# Altium footprint library ZERORULERV2.PcbLib: 78 footprints (part 2 of 5)
Each footprint in its own frame and in the unit in brackets; x right, y up, seen from the top. Pads: shape width x height; smd on the part's side, far side on the other; paste and mask are expansions set on the pad; w line width, h text height; cw(c..) or ccw(c..) is an arc to the next point about the centre after c.
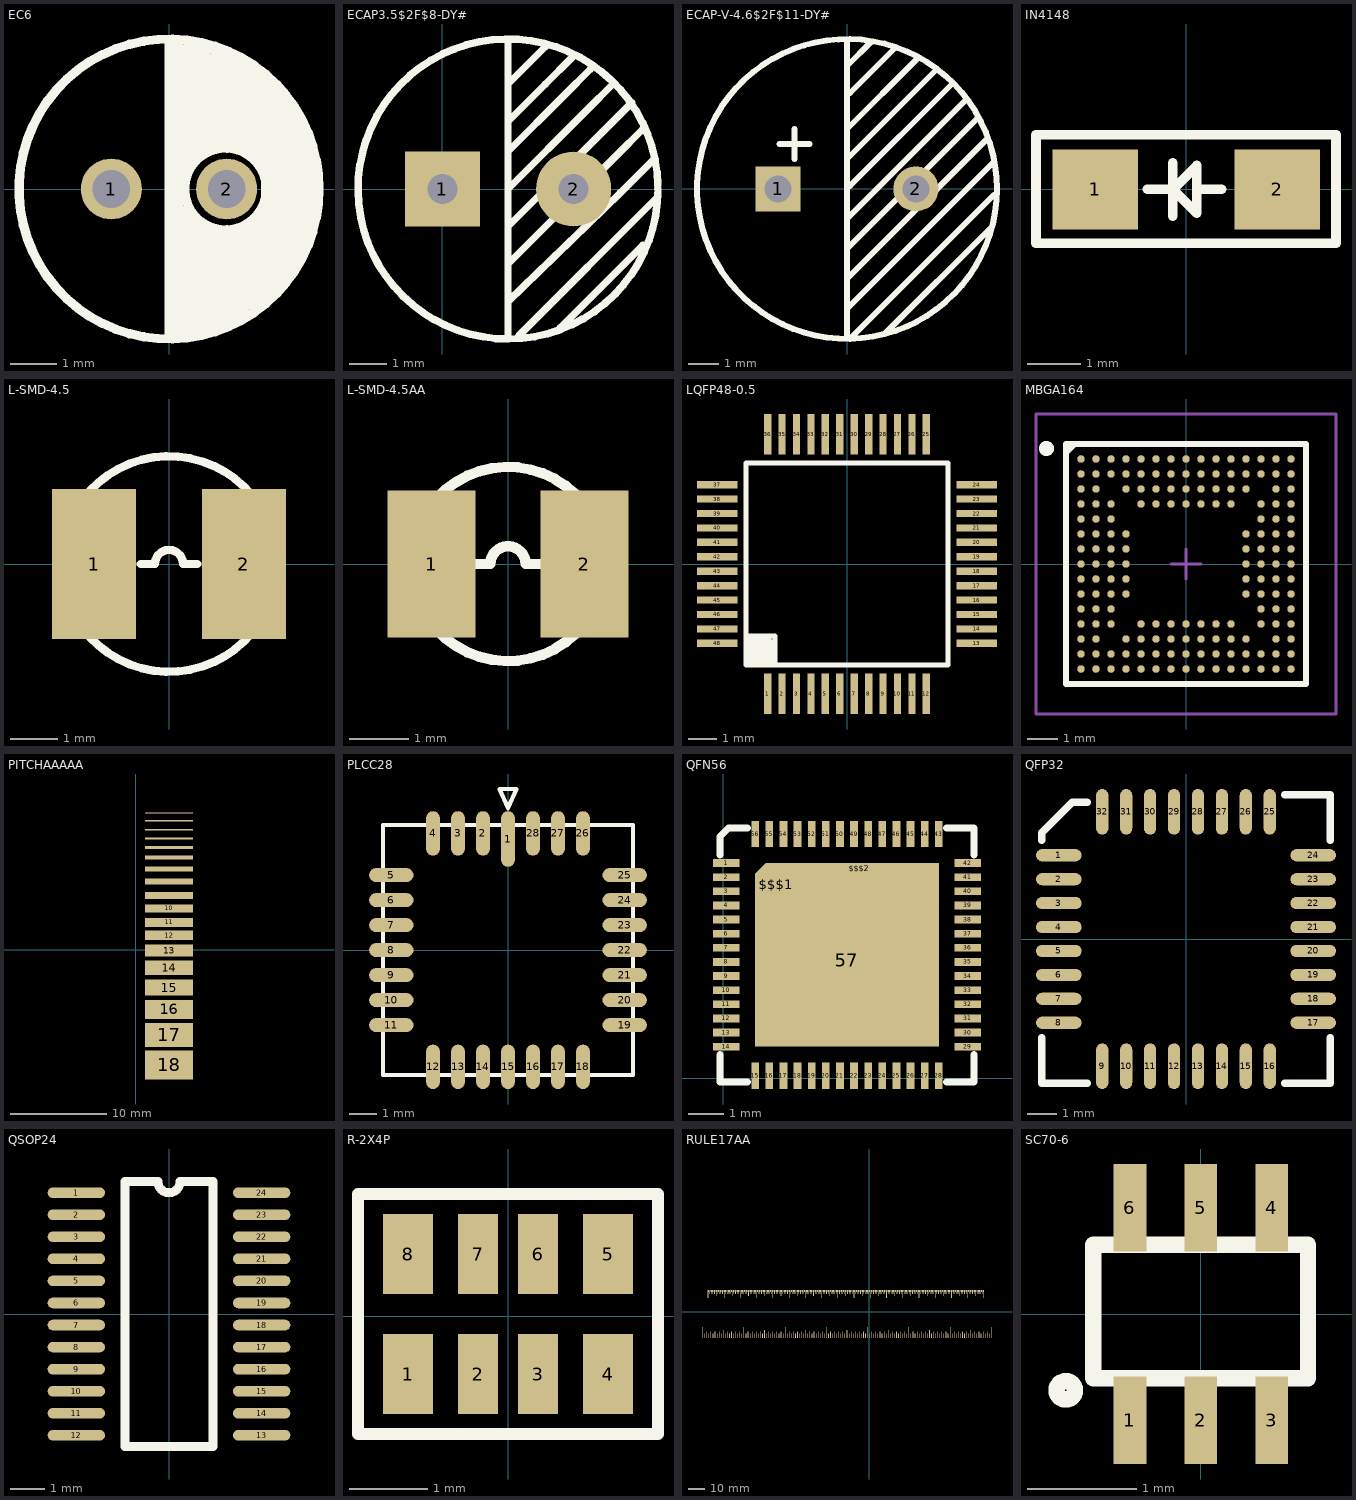
[diagram p1: the footprints below, top view; thin cyan lines are the x and y axes]

## EC6 [mil]
pads (2):
  round 52 hole 32: 1(-49.21,0) 2(49.21,0)
Top Overlay:
  circle w7.87: c0,0 r127.95
  circle w8: c48.23,0 r34.95
  lines w7.87: 0,-125.98 0,-118.11 0,118.11 0,125.98
  lines w8: 7.87,-125.98 7.87,125.98 ; 7.87,-118.11 35.43,-118.11 ; 7.87,-114.17 55.12,-114.17 ; 7.87,-98.43 70.87,-98.43 ; 7.87,-90.55 78.74,-90.55 ; 7.87,-74.8 98.43,-74.8 ; 7.87,-66.93 102.36,-66.93 ; 7.87,-59.06 110.24,-59.06 ; 7.87,-51.18 110.24,-51.18 ; 7.87,-43.31 114.17,-43.31 ; 7.87,-35.43 118.11,-35.43 ; 7.87,-15.75 27.56,-35.43 ; 11.81,-122.05 19.69,-122.05 ; 11.81,-106.3 66.93,-106.3 ; 11.81,-82.68 90.55,-82.68 ; 11.81,-27.56 17.72,-33.46 ; 11.81,11.81 11.81,19.69 27.56,35.43 78.74,35.43 78.74,23.62 ; 15.75,15.75 15.75,122.05 ; 23.62,27.56 23.62,122.05 ; 23.62,39.37 78.74,39.37 ; 28,124 60,108 92,80 116,40 124,0 116,-40 104,-68 72,-100 ; 31.5,43.31 31.5,118.11 ; 39.37,43.31 39.37,114.17 ; 47.24,43.31 47.24,114.17 ; 55.12,43.31 55.12,110.24 ; 62.99,43.31 62.99,106.3 ; 66.93,31.5 78.74,31.5 ; 70.87,39.37 70.87,98.43 ; 74.8,-31.5 80.71,-25.59 ; 78.74,43.31 78.74,90.55 ; 82.68,-35.43 82.68,86.61 ; 90.55,-35.43 90.55,78.74 ; 98.43,-35.43 98.43,74.8 ; 106.3,-31.5 106.3,59.06 ; 112,-56 112,56 ; 120,-40 120,40

## ECAP3.5$2F$8-DY# [mm]
height 0.318
pads (2):
  rect 2x2 hole 0.8: 1(0,0)
  round 2 hole 0.8: 2(3.5,0)
Top Overlay:
  lines w0.2: 1.75,-4 1.75,-3 ; 1.75,-2 4.65,0.9 5.35,1.6 ; 1.75,-1 4.25,1.5 5.05,2.3 ; 1.75,0 3.85,2.1 4.55,2.8 ; 1.75,1 3.25,2.5 3.95,3.2 ; 1.75,1.8 2.75,2.8 3.45,3.5 ; 1.75,2.8 2.75,3.8 ; 1.75,4 1.75,3 1.75,-3 ; 2.05,-3.9 5.75,-0.2 ; 3.15,-3.7 5.35,-1.5 ; 5.65,0.8 4.75,-0.1 1.75,-3 ; 5.749,0.105 ccw(c1.75,0) 5.75,0

## ECAP-V-4.6$2F$11-DY# [mm]
height 0.318
pads (2):
  rect 1.5x1.5 hole 0.9: 1(-2.3,0)
  round 1.5 hole 0.9: 2(2.3,0)
Top Overlay:
  circle w0.2: c0,0 r5
  lines w0.2: -2.25,1.5 -1.25,1.5 ; -1.75,1 -1.75,2 ; 0,-4.9 0,4.949 ; 0,-4 4.869,0.869 ; 0,-3 4.678,1.678 ; 0,-2 4.366,2.366 ; 0,-1 3.952,2.953 ; 0,1 2.95,3.951 ; 0,2 2.331,4.331 ; 0,4.1 0.805,4.905 ; 0.095,-5.005 4.904,-0.196 ; 0.1,0.1 3.484,3.484 ; 0.1,3.2 1.585,4.684 ; 1.281,-4.819 4.781,-1.318

## IN4148 [mm]
pads (2):
  rect 1.6x1.5 smd: 1(-1.7,0) 2(1.7,0)
Top Overlay:
  lines w0.178: -0.728,0 -0.25,0 ; -0.25,-0.5 -0.25,0.5 ; 0.2,0 0.668,0 ; -0.25,0 0.2,0.45 0.2,-0.45 -0.25,0 ; -2.809,-1.003 2.802,-1.003 2.802,1.018 -2.809,1.018 -2.809,-1.003

## L-SMD-4.5 [mm]
pads (2):
  rect 1.8x3.2 smd: 1(-1.6,0) 2(1.6,0)
Top Overlay:
  circle w0.178: c0,0 r2.3
  lines w0.178: -0.6,0 -0.3,0 cw(c0,0) 0.3,0 0.6,0

## L-SMD-4.5AA [mm]
pads (2):
  rect 1.5x2.5 smd: 1(-1.3,0) 2(1.3,0)
Top Overlay:
  circle w0.178: c0,0 r1.65
  lines w0.178: -0.6,0 -0.3,0 cw(c0,0) 0.3,0 0.6,0

## LQFP48-0.5 [mm]
pads (48):
  rect 0.254x1.397 smd: 1(-2.75,-4.5) 2(-2.25,-4.5) 3(-1.75,-4.5) 4(-1.25,-4.5) 5(-0.75,-4.5) 6(-0.25,-4.5) 7(0.25,-4.5) 8(0.75,-4.5) 9(1.25,-4.5) 10(1.75,-4.5) 11(2.25,-4.5) 12(2.75,-4.5) 25(2.75,4.5) 26(2.25,4.5) 27(1.75,4.5) 28(1.25,4.5) 29(0.75,4.5) 30(0.25,4.5) 31(-0.25,4.5) 32(-0.75,4.5) 33(-1.25,4.5) 34(-1.75,4.5) 35(-2.25,4.5) 36(-2.75,4.5)
  rect 1.397x0.254 smd: 13(4.5,-2.75) 14(4.5,-2.25) 15(4.5,-1.75) 16(4.5,-1.25) 17(4.5,-0.75) 18(4.5,-0.25) 19(4.5,0.25) 20(4.5,0.75) 21(4.5,1.25) 22(4.5,1.75) 23(4.5,2.25) 24(4.5,2.75) 37(-4.5,2.75) 38(-4.5,2.25) 39(-4.5,1.75) 40(-4.5,1.25) 41(-4.5,0.75) 42(-4.5,0.25) 43(-4.5,-0.25) 44(-4.5,-0.75) 45(-4.5,-1.25) 46(-4.5,-1.75) 47(-4.5,-2.25) 48(-4.5,-2.75)
Top Overlay:
  lines w0.178: -3.4,-2.5 -3.4,-3.4 -2.5,-3.4 ; -3.3,-2.5 -3.3,-3.3 -2.5,-3.3 ; -3.2,-2.5 -3.2,-3.2 -2.5,-3.2 ; -3.1,-2.5 -3.1,-3.1 -2.5,-3.1 ; -3,-2.5 -3,-3 -2.5,-3 ; -2.9,-2.6 -2.9,-2.9 -2.5,-2.9 ; -2.8,-2.5 -2.8,-2.8 -2.5,-2.8 ; -2.7,-2.5 -2.7,-2.7 -2.5,-2.7 ; -3.5,-2.5 -2.5,-2.5 -2.5,-3.5 ; -3.5,-2.5 -3.5,3.5 3.5,3.5 3.5,-3.5 -2.5,-3.5 ; -3.5,-2.5 -3.5,-3.5 -2.5,-3.5

## MBGA164 [mm] "BGA, 164-Leads, Body 8x8mm, Pitch 0.5mm"
height 1.2
pads (164):
  round 0.25 smd: A1(-3.5,3.5) A2(-3,3.5) A3(-2.5,3.5) A4(-2,3.5) A5(-1.5,3.5) A6(-1,3.5) A7(-0.5,3.5) A8(0,3.5) A9(0.5,3.5) A10(1,3.5) A11(1.5,3.5) A12(2,3.5) A13(2.5,3.5) A14(3,3.5) A15(3.5,3.5) B1(-3.5,3) B2(-3,3) B3(-2.5,3) B4(-2,3) B5(-1.5,3) B6(-1,3) B7(-0.5,3) B8(0,3) B9(0.5,3) B10(1,3) B11(1.5,3) B12(2,3) B13(2.5,3) B14(3,3) B15(3.5,3) C1(-3.5,2.5) C2(-3,2.5) C4(-2,2.5) C5(-1.5,2.5) C6(-1,2.5) C7(-0.5,2.5) C8(0,2.5) C9(0.5,2.5) C10(1,2.5) C11(1.5,2.5) C12(2,2.5) C14(3,2.5) C15(3.5,2.5) D1(-3.5,2) D2(-3,2) D3(-2.5,2) D5(-1.5,2) D6(-1,2) D7(-0.5,2) D8(0,2) D9(0.5,2) D10(1,2) D11(1.5,2) D13(2.5,2) D14(3,2) D15(3.5,2) E1(-3.5,1.5) E2(-3,1.5) E3(-2.5,1.5) E13(2.5,1.5) E14(3,1.5) E15(3.5,1.5) F1(-3.5,1) F2(-3,1) F3(-2.5,1) F4(-2,1) F12(2,1) F13(2.5,1) F14(3,1) F15(3.5,1) G1(-3.5,0.5) G2(-3,0.5) G3(-2.5,0.5) G4(-2,0.5) G12(2,0.5) G13(2.5,0.5) G14(3,0.5) G15(3.5,0.5) H1(-3.5,0) H2(-3,0) H3(-2.5,0) H4(-2,0) H12(2,0) H13(2.5,0) H14(3,0) H15(3.5,0) J1(-3.5,-0.5) J2(-3,-0.5) J3(-2.5,-0.5) J4(-2,-0.5) J12(2,-0.5) J13(2.5,-0.5) J14(3,-0.5) J15(3.5,-0.5) K1(-3.5,-1) K2(-3,-1) K3(-2.5,-1) K4(-2,-1) K12(2,-1) K13(2.5,-1) K14(3,-1) K15(3.5,-1) L1(-3.5,-1.5) L2(-3,-1.5) L3(-2.5,-1.5) L13(2.5,-1.5) L14(3,-1.5) L15(3.5,-1.5) M1(-3.5,-2) M2(-3,-2) M3(-2.5,-2) M5(-1.5,-2) M6(-1,-2) M7(-0.5,-2) M8(0,-2) M9(0.5,-2) M10(1,-2) M11(1.5,-2) M13(2.5,-2) M14(3,-2) M15(3.5,-2) N1(-3.5,-2.5) N2(-3,-2.5) N4(-2,-2.5) N5(-1.5,-2.5) N6(-1,-2.5) N7(-0.5,-2.5) N8(0,-2.5) N9(0.5,-2.5) N10(1,-2.5) N11(1.5,-2.5) N12(2,-2.5) N14(3,-2.5) N15(3.5,-2.5) P1(-3.5,-3) P2(-3,-3) P3(-2.5,-3) P4(-2,-3) P5(-1.5,-3) P6(-1,-3) P7(-0.5,-3) P8(0,-3) P9(0.5,-3) P10(1,-3) P11(1.5,-3) P12(2,-3) P13(2.5,-3) P14(3,-3) P15(3.5,-3) R1(-3.5,-3.5) R2(-3,-3.5) R3(-2.5,-3.5) R4(-2,-3.5) R5(-1.5,-3.5) R6(-1,-3.5) R7(-0.5,-3.5) R8(0,-3.5) R9(0.5,-3.5) R10(1,-3.5) R11(1.5,-3.5) R12(2,-3.5) R13(2.5,-3.5) R14(3,-3.5) R15(3.5,-3.5)
Top Overlay:
  circle w0.25: c-4.65,3.85 r0.125
  region: -3.707,4 -4,3.707 -4,4
  lines w0.2: -4,3.707 -3.707,4 ; -4,-4 -4,4 4,4 4,-4 -4,-4
Mechanical 13:
  lines w0.1: -4,-4 -4,4 4,4 4,-4 -4,-4
Mechanical 15:
  lines w0.1: -0.5,0 0.5,0 ; 0,-0.5 0,0.5 ; -5,-5 -5,5 5,5 5,-5 -5,-5
3D body: height 1.2, standoff 0.15, extent -4,-4 4,4

## PITCHAAAAA [mm]
pads (18):
  rect 5x0.1 smd: 1(3.481,14.233)
  rect 5x0.127 smd: 2(3.481,13.428)
  rect 5x0.152 smd: 3(3.481,12.507)
  rect 5x0.2 smd: 4(3.481,11.589)
  rect 5x0.3 smd: 5(3.481,10.647)
  rect 5x0.4 smd: 6(3.481,9.592)
  rect 5x0.5 smd: 7(3.481,8.409)
  rect 5x0.6 smd: 8(3.481,7.105)
  rect 5x0.7 smd: 9(3.481,5.645)
  rect 5x0.8 smd: 10(3.481,4.311)
  rect 5x0.9 smd: 11(3.481,2.852)
  rect 5x1 smd: 12(3.481,1.509)
  rect 5x1.25 smd: 13(3.481,-0.081)
  rect 5x1.5 smd: 14(3.481,-1.874)
  rect 5x1.7 smd: 15(3.481,-3.915)
  rect 5x2 smd: 16(3.481,-6.191)
  rect 5x2.5 smd: 17(3.481,-8.84)
  rect 5x3 smd: 18(3.481,-11.971)

## PLCC28 [mm]
height 2.35
pads (28):
  oval 0.5x2 smd: 1(0,4)
  oval 0.5x1.6 smd: 2(-0.9,4.2) 3(-1.8,4.2) 4(-2.7,4.2) 12(-2.7,-4.2) 13(-1.8,-4.2) 14(-0.9,-4.2) 15(0,-4.2) 16(0.9,-4.2) 17(1.8,-4.2) 18(2.7,-4.2) 26(2.7,4.2) 27(1.8,4.2) 28(0.9,4.2)
  oval 1.6x0.5 smd: 5(-4.2,2.7) 6(-4.2,1.8) 7(-4.2,0.9) 8(-4.2,0) 9(-4.2,-0.9) 10(-4.2,-1.8) 11(-4.2,-2.7) 19(4.2,-2.7) 20(4.2,-1.8) 21(4.2,-0.9) 22(4.2,0) 23(4.2,0.9) 24(4.2,1.8) 25(4.2,2.7)
Top Overlay:
  lines w0.152: -4.5,-4.5 4.5,-4.5 4.5,4.5 -4.5,4.5 -4.5,-4.5 ; -0.3,5.8 0,5.11 0.3,5.8 -0.3,5.8

## QFN56 [mm]
pads (59):
  rect 0.75x0.22 smd: 1(0.075,6.1) 2(0.075,5.7) 3(0.075,5.3) 4(0.075,4.9) 5(0.075,4.5) 6(0.075,4.1) 7(0.075,3.7) 8(0.075,3.3) 9(0.075,2.9) 10(0.075,2.5) 11(0.075,2.1) 12(0.075,1.7) 13(0.075,1.3) 14(0.075,0.9) 29(6.925,0.9) 30(6.925,1.3) 31(6.925,1.7) 32(6.925,2.1) 33(6.925,2.5) 34(6.925,2.9) 35(6.925,3.3) 36(6.925,3.7) 37(6.925,4.1) 38(6.925,4.5) 39(6.925,4.9) 40(6.925,5.3) 41(6.925,5.7) 42(6.925,6.1)
  rect 0.22x0.75 smd: 15(0.9,0.075) 16(1.3,0.075) 17(1.7,0.075) 18(2.1,0.075) 19(2.5,0.075) 20(2.9,0.075) 21(3.3,0.075) 22(3.7,0.075) 23(4.1,0.075) 24(4.5,0.075) 25(4.9,0.075) 26(5.3,0.075) 27(5.7,0.075) 28(6.1,0.075) 43(6.1,6.925) 44(5.7,6.925) 45(5.3,6.925) 46(4.9,6.925) 47(4.5,6.925) 48(4.1,6.925) 49(3.7,6.925) 50(3.3,6.925) 51(2.9,6.925) 52(2.5,6.925) 53(2.1,6.925) 54(1.7,6.925) 55(1.3,6.925) 56(0.9,6.925)
  rect 5.2x4.9 smd: 57(3.5,3.35)
  oct 1.2x1.2 smd: $$$1(1.5,5.5)
  rect 4.5x0.3 smd: $$$2(3.85,5.95)
Top Overlay:
  lines w0.2: -0.1,0.675 -0.1,-0.1 0.675,-0.1 ; -0.1,6.325 -0.1,6.859 0.141,7.1 0.675,7.1 ; 6.325,-0.1 7.1,-0.1 7.1,0.675 ; 6.325,7.1 7.1,7.1 7.1,6.325

## QFP32 [mil]
pads (32):
  oval 60x16 smd: 1(-167.5,110.25) 2(-167.5,78.75) 3(-167.5,47.25) 4(-167.5,15.75) 5(-167.5,-15.75) 6(-167.5,-47.25) 7(-167.5,-78.75) 8(-167.5,-110.25) 17(167.5,-110.25) 18(167.5,-78.75) 19(167.5,-47.25) 20(167.5,-15.75) 21(167.5,15.75) 22(167.5,47.25) 23(167.5,78.75) 24(167.5,110.25)
  oval 16x60 smd: 9(-110.25,-167.5) 10(-78.75,-167.5) 11(-47.25,-167.5) 12(-15.75,-167.5) 13(15.75,-167.5) 14(47.25,-167.5) 15(78.75,-167.5) 16(110.25,-167.5) 25(110.25,167.5) 26(78.75,167.5) 27(47.25,167.5) 28(15.75,167.5) 29(-15.75,167.5) 30(-47.25,167.5) 31(-78.75,167.5) 32(-110.25,167.5)
Top Overlay:
  lines w10: -190,-130 -190,-190 -130,-190 ; -190,130 -190,140 -150,180 -130,180 ; 130,-190 190,-190 190,-130 ; 130,190 190,190 190,130

## QSOP24 [mil]
pads (24):
  oval 65x12 smd: 1(-105,137.5) 2(-105,112.5) 3(-105,87.5) 4(-105,62.5) 5(-105,37.5) 6(-105,12.5) 7(-105,-12.5) 8(-105,-37.5) 9(-105,-62.5) 10(-105,-87.5) 11(-105,-112.5) 12(-105,-137.5) 13(105,-137.5) 14(105,-112.5) 15(105,-87.5) 16(105,-62.5) 17(105,-37.5) 18(105,-12.5) 19(105,12.5) 20(105,37.5) 21(105,62.5) 22(105,87.5) 23(105,112.5) 24(105,137.5)
Top Overlay:
  lines w10: -50,-150 -50,150 -12.5,150 ccw(c0,150) 12.5,150 50,150 50,-150 -50,-150

## R-2X4P [mil]
pads (8):
  rect 25x40 smd: 1(-50,-29) 4(50,-29) 5(50,31) 8(-50,31)
  rect 20x40 smd: 2(-15,-29) 3(15,-29) 6(15,31) 7(-15,31)
Top Overlay:
  lines w6: -75,-59 75,-59 75,61 -75,61 -75,-59

## RULE17AA [mm]
pads (482):
  rect 0.15x7 smd: 201(-102.547,-12.937) 221(-77.147,-12.937) 241(-51.747,-12.937) 261(-26.347,-12.937) 281(-0.947,-12.937) 301(24.453,-12.937) 321(49.853,-12.937) 341(75.253,-12.937)
  rect 0.15x3 smd: 202(-101.277,-14.937) 204(-98.737,-14.937) 206(-96.197,-14.937) 208(-93.657,-14.937) 210(-91.117,-14.937) 212(-88.577,-14.937) 214(-86.037,-14.937) 216(-83.497,-14.937) 218(-80.957,-14.937) 220(-78.417,-14.937) 222(-75.877,-14.937) 224(-73.337,-14.937) 226(-70.797,-14.937) 228(-68.257,-14.937) 230(-65.717,-14.937) 232(-63.177,-14.937) 234(-60.637,-14.937) 236(-58.097,-14.937) 238(-55.557,-14.937) 240(-53.017,-14.937) 242(-50.477,-14.937) 244(-47.937,-14.937) 246(-45.397,-14.937) 248(-42.857,-14.937) 250(-40.317,-14.937) 252(-37.777,-14.937) 254(-35.237,-14.937) 256(-32.697,-14.937) 258(-30.157,-14.937) 260(-27.617,-14.937) 262(-25.077,-14.937) 264(-22.537,-14.937) 266(-19.997,-14.937) 268(-17.457,-14.937) 270(-14.917,-14.937) 272(-12.377,-14.937) 274(-9.837,-14.937) 276(-7.297,-14.937) 278(-4.757,-14.937) 280(-2.217,-14.937) 282(0.323,-14.937) 284(2.863,-14.937) 286(5.403,-14.937) 288(7.943,-14.937) 290(10.483,-14.937) 292(13.023,-14.937) 294(15.563,-14.937) 296(18.103,-14.937) 298(20.643,-14.937) 300(23.183,-14.937) 302(25.723,-14.937) 304(28.263,-14.937) 306(30.803,-14.937) 308(33.343,-14.937) 310(35.883,-14.937) 312(38.423,-14.937) 314(40.963,-14.937) 316(43.503,-14.937) 318(46.043,-14.937) 320(48.583,-14.937) 322(51.123,-14.937) 324(53.663,-14.937) 326(56.203,-14.937) 328(58.743,-14.937) 330(61.283,-14.937) 332(63.823,-14.937) 334(66.363,-14.937) 336(68.903,-14.937) 338(71.443,-14.937) 340(73.983,-14.937)
  rect 0.15x4 smd: 203(-100.007,-14.437) 205(-97.467,-14.437) 207(-94.927,-14.437) 209(-92.387,-14.437) 213(-87.307,-14.437) 215(-84.767,-14.437) 217(-82.227,-14.437) 219(-79.687,-14.437) 223(-74.607,-14.437) 225(-72.067,-14.437) 227(-69.527,-14.437) 229(-66.987,-14.437) 233(-61.907,-14.437) 235(-59.367,-14.437) 237(-56.827,-14.437) 239(-54.287,-14.437) 243(-49.207,-14.437) 245(-46.667,-14.437) 247(-44.127,-14.437) 249(-41.587,-14.437) 253(-36.507,-14.437) 255(-33.967,-14.437) 257(-31.427,-14.437) 259(-28.887,-14.437) 263(-23.807,-14.437) 265(-21.267,-14.437) 267(-18.727,-14.437) 269(-16.187,-14.437) 273(-11.107,-14.437) 275(-8.567,-14.437) 277(-6.027,-14.437) 279(-3.487,-14.437) 283(1.593,-14.437) 285(4.133,-14.437) 287(6.673,-14.437) 289(9.213,-14.437) 293(14.293,-14.437) 295(16.833,-14.437) 297(19.373,-14.437) 299(21.913,-14.437) 303(26.993,-14.437) 305(29.533,-14.437) 307(32.073,-14.437) 309(34.613,-14.437) 313(39.693,-14.437) 315(42.233,-14.437) 317(44.773,-14.437) 319(47.313,-14.437) 323(52.393,-14.437) 325(54.933,-14.437) 327(57.473,-14.437) 329(60.013,-14.437) 333(65.093,-14.437) 335(67.633,-14.437) 337(70.173,-14.437) 339(72.713,-14.437)
  rect 0.15x5 smd: 211(-89.847,-13.937) 231(-64.447,-13.937) 251(-39.047,-13.937) 271(-13.647,-13.937) 291(11.753,-13.937) 311(37.153,-13.937) 331(62.553,-13.937)
  rect 0.152x5 smd: 362(-99.304,10.863) 372(-89.304,10.863) 382(-79.304,10.863) 392(-69.304,10.863) 402(-59.304,10.863) 412(-49.304,10.863) 422(-39.304,10.863) 432(-29.304,10.863) 442(-19.304,10.863) 452(-9.304,10.863) 462(0.696,10.863) 472(10.696,10.863) 482(20.696,10.863) 492(30.696,10.863) 502(40.696,10.863) 512(50.696,10.863) 522(60.696,10.863) 532(70.696,10.863)
  rect 0.152x2.5 smd: 363(-98.304,12.113) 364(-97.304,12.113) 365(-96.304,12.113) 366(-95.304,12.113) 368(-93.304,12.113) 369(-92.304,12.113) 370(-91.304,12.113) 371(-90.304,12.113) 373(-88.304,12.113) 374(-87.304,12.113) 375(-86.304,12.113) 376(-85.304,12.113) 378(-83.304,12.113) 379(-82.304,12.113) 380(-81.304,12.113) 381(-80.304,12.113) 383(-78.304,12.113) 384(-77.304,12.113) 385(-76.304,12.113) 386(-75.304,12.113) 388(-73.304,12.113) 389(-72.304,12.113) 390(-71.304,12.113) 391(-70.304,12.113) 393(-68.304,12.113) 394(-67.304,12.113) 395(-66.304,12.113) 396(-65.304,12.113) 398(-63.304,12.113) 399(-62.304,12.113) 400(-61.304,12.113) 401(-60.304,12.113) 403(-58.304,12.113) 404(-57.304,12.113) 405(-56.304,12.113) 406(-55.304,12.113) 408(-53.304,12.113) 409(-52.304,12.113) 410(-51.304,12.113) 411(-50.304,12.113) 413(-48.304,12.113) 414(-47.304,12.113) 415(-46.304,12.113) 416(-45.304,12.113) 418(-43.304,12.113) 419(-42.304,12.113) 420(-41.304,12.113) 421(-40.304,12.113) 423(-38.304,12.113) 424(-37.304,12.113) 425(-36.304,12.113) 426(-35.304,12.113) 428(-33.304,12.113) 429(-32.304,12.113) 430(-31.304,12.113) 431(-30.304,12.113) 433(-28.304,12.113) 434(-27.304,12.113) 435(-26.304,12.113) 436(-25.304,12.113) 438(-23.304,12.113) 439(-22.304,12.113) 440(-21.304,12.113) 441(-20.304,12.113) 443(-18.304,12.113) 444(-17.304,12.113) 445(-16.304,12.113) 446(-15.304,12.113) 448(-13.304,12.113) 449(-12.304,12.113) 450(-11.304,12.113) 451(-10.304,12.113) 453(-8.304,12.113) 454(-7.304,12.113) 455(-6.304,12.113) 456(-5.304,12.113) 458(-3.304,12.113) 459(-2.304,12.113) 460(-1.304,12.113) 461(-0.304,12.113) 463(1.696,12.113) 464(2.696,12.113) 465(3.696,12.113) 466(4.696,12.113) 468(6.696,12.113) 469(7.696,12.113) 470(8.696,12.113) 471(9.696,12.113) 473(11.696,12.113) 474(12.696,12.113) 475(13.696,12.113) 476(14.696,12.113) 478(16.696,12.113) 479(17.696,12.113) 480(18.696,12.113) 481(19.696,12.113) 483(21.696,12.113) 484(22.696,12.113) 485(23.696,12.113) 486(24.696,12.113) 488(26.696,12.113) 489(27.696,12.113) 490(28.696,12.113) 491(29.696,12.113) 493(31.696,12.113) 494(32.696,12.113) 495(33.696,12.113) 496(34.696,12.113) 498(36.696,12.113) 499(37.696,12.113) 500(38.696,12.113) 501(39.696,12.113) 503(41.696,12.113) 504(42.696,12.113) 505(43.696,12.113) 506(44.696,12.113) 508(46.696,12.113) 509(47.696,12.113) 510(48.696,12.113) 511(49.696,12.113) 513(51.696,12.113) 514(52.696,12.113) 515(53.696,12.113) 516(54.696,12.113) 518(56.696,12.113) 519(57.696,12.113) 520(58.696,12.113) 521(59.696,12.113) 523(61.696,12.113) 524(62.696,12.113) 525(63.696,12.113) 526(64.696,12.113) 528(66.696,12.113) 529(67.696,12.113) 530(68.696,12.113) 531(69.696,12.113)
  rect 0.152x3.75 smd: 367(-94.304,11.488) 377(-84.304,11.488) 387(-74.304,11.488) 397(-64.304,11.488) 407(-54.304,11.488) 417(-44.304,11.488) 427(-34.304,11.488) 437(-24.304,11.488) 447(-14.304,11.488) 457(-4.304,11.488) 467(5.696,11.488) 477(15.696,11.488) 487(25.696,11.488) 497(35.696,11.488) 507(45.696,11.488) 517(55.696,11.488) 527(65.696,11.488)
  rect 0.152x1.5 smd: 563(-98.804,12.613) 564(-97.804,12.613) 565(-96.804,12.613) 566(-95.804,12.613) 567(-94.804,12.613) 568(-93.804,12.613) 569(-92.804,12.613) 570(-91.804,12.613) 571(-90.804,12.613) 572(-89.804,12.613) 573(-88.804,12.613) 574(-87.804,12.613) 575(-86.804,12.613) 576(-85.804,12.613) 577(-84.804,12.613) 578(-83.804,12.613) 579(-82.804,12.613) 580(-81.804,12.613) 581(-80.804,12.613) 582(-79.804,12.613) 583(-78.804,12.613) 584(-77.804,12.613) 585(-76.804,12.613) 586(-75.804,12.613) 587(-74.804,12.613) 588(-73.804,12.613) 589(-72.804,12.613) 590(-71.804,12.613) 591(-70.804,12.613) 592(-69.804,12.613) 593(-68.804,12.613) 594(-67.804,12.613) 595(-66.804,12.613) 596(-65.804,12.613) 597(-64.804,12.613) 598(-63.804,12.613) 599(-62.804,12.613) 600(-61.804,12.613) 601(-60.804,12.613) 602(-59.804,12.613) 603(-58.804,12.613) 604(-57.804,12.613) 605(-56.804,12.613) 606(-55.804,12.613) 607(-54.804,12.613) 608(-53.804,12.613) 609(-52.804,12.613) 610(-51.804,12.613) 611(-50.804,12.613) 612(-49.804,12.613) 613(-48.804,12.613) 614(-47.804,12.613) 615(-46.804,12.613) 616(-45.804,12.613) 617(-44.804,12.613) 618(-43.804,12.613) 619(-42.804,12.613) 620(-41.804,12.613) 621(-40.804,12.613) 622(-39.804,12.613) 623(-38.804,12.613) 624(-37.804,12.613) 625(-36.804,12.613) 626(-35.804,12.613) 627(-34.804,12.613) 628(-33.804,12.613) 629(-32.804,12.613) 630(-31.804,12.613) 631(-30.804,12.613) 632(-29.804,12.613) 633(-28.804,12.613) 634(-27.804,12.613) 635(-26.804,12.613) 636(-25.804,12.613) 637(-24.804,12.613) 638(-23.804,12.613) 639(-22.804,12.613) 640(-21.804,12.613) 641(-20.804,12.613) 642(-19.804,12.613) 643(-18.804,12.613) 644(-17.804,12.613) 645(-16.804,12.613) 646(-15.804,12.613) 647(-14.804,12.613) 648(-13.804,12.613) 649(-12.804,12.613) 650(-11.804,12.613) 651(-10.804,12.613) 652(-9.804,12.613) 653(-8.804,12.613) 654(-7.804,12.613) 655(-6.804,12.613) 656(-5.804,12.613) 657(-4.804,12.613) 658(-3.804,12.613) 659(-2.804,12.613) 660(-1.804,12.613) 661(-0.804,12.613) 662(0.196,12.613) 663(1.196,12.613) 664(2.196,12.613) 665(3.196,12.613) 666(4.196,12.613) 667(5.196,12.613) 668(6.196,12.613) 669(7.196,12.613) 670(8.196,12.613) 671(9.196,12.613) 672(10.196,12.613) 673(11.196,12.613) 674(12.196,12.613) 675(13.196,12.613) 676(14.196,12.613) 677(15.196,12.613) 678(16.196,12.613) 679(17.196,12.613) 680(18.196,12.613) 681(19.196,12.613) 682(20.196,12.613) 683(21.196,12.613) 684(22.196,12.613) 685(23.196,12.613) 686(24.196,12.613) 687(25.196,12.613) 688(26.196,12.613) 689(27.196,12.613) 690(28.196,12.613) 691(29.196,12.613) 692(30.196,12.613) 693(31.196,12.613) 694(32.196,12.613) 695(33.196,12.613) 696(34.196,12.613) 697(35.196,12.613) 698(36.196,12.613) 699(37.196,12.613) 700(38.196,12.613) 701(39.196,12.613) 702(40.196,12.613) 703(41.196,12.613) 704(42.196,12.613) 705(43.196,12.613) 706(44.196,12.613) 707(45.196,12.613) 708(46.196,12.613) 709(47.196,12.613) 710(48.196,12.613) 711(49.196,12.613) 712(50.196,12.613) 713(51.196,12.613) 714(52.196,12.613) 715(53.196,12.613) 716(54.196,12.613) 717(55.196,12.613) 718(56.196,12.613) 719(57.196,12.613) 720(58.196,12.613) 721(59.196,12.613) 722(60.196,12.613) 723(61.196,12.613) 724(62.196,12.613) 725(63.196,12.613) 726(64.196,12.613) 727(65.196,12.613) 728(66.196,12.613) 729(67.196,12.613) 730(68.196,12.613) 731(69.196,12.613) 732(70.196,12.613)

## SC70-6 [mm]
height 1.1
pads (6):
  rect 0.3x0.8 smd: 1(-0.65,-0.975) 2(0,-0.975) 3(0.65,-0.975) 4(0.65,0.975) 5(0,0.975) 6(-0.65,0.975)
Top Overlay:
  circle w0.15: c-1.238,-0.699 r0.084
  lines w0.15: -0.986,-0.588 0.982,-0.588 0.982,0.634 -0.986,0.634 -0.986,-0.588